# EAGLE library part LM4780 (library lmopamp)
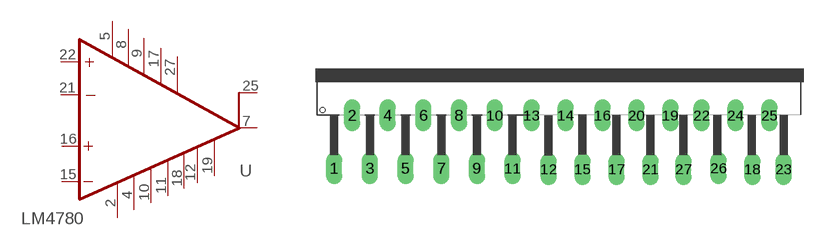
[diagram p1: symbol with the pads of LM4780; footprint LM4780]

Designator prefix -

## LM4780  [LM4780]
2  V-  pwr
4  V-1  pwr
5  V+  pwr
7  OUT  out
8  V+1  pwr
9  V+2  pwr
10  V-2  pwr
11  V-3  pwr
12  V-5  pwr
15  -INA  in
16  +INA  in
17  V+3  pwr
18  V-4  pwr
19  V-6  pwr
21  -INB  in
22  +INB  in
25  OUT1  out
27  V+4  pwr

## Footprint LM4780 (pad centres in mm)
drill 1.016 long: 1 -7.239,1.905; 2 -5.537,6.96; 3 -3.835,1.905; 4 -2.134,6.96; 5 -0.432,1.905; 6 1.27,6.96; 7 2.972,1.905; 8 4.674,6.96; 9 6.375,1.905; 10 8.077,6.96; 11 9.779,1.905; 12 13.207,1.83; 13 11.587,6.96; 14 14.827,6.96; 15 16.447,1.83; 16 18.337,6.96; 17 19.687,1.83; 18 32.647,1.83; 19 24.817,6.96; 20 21.577,6.96; 21 22.927,1.83; 22 27.787,6.96; 23 35.617,1.83; 24 31.027,6.96; 25 34.267,6.96; 26 29.407,1.93; 27 26.067,1.83